# EAGLE library part WE-PPTI_EP7HV (library WE-PPTI)
WE-PPTI Push-Pull Transformers Characteristics Small size Surface mount Low profile Operating temp: -40°C to 125°C Functional or Reinforced Insulation Approved for SN65xx, MAX25x and NXF65xx controllers among others Applications Isolated interface power supply for CAN, RS-485, RS-422, RS-232, SPI, I2C, lower-power LAN Industrial automation Process control Medical equipment PLC analog and digital I/O modules Isolated gate driver power supplies AC motor drives Uninterruptible power supplies (UPS) Solar inverters Polyphase energy meters Protection relays and IEDs <https://www.we-online.com/components/media/o715993v209%20Family-PPTI.jpg> Details see: www.we-online.com/en/components/products/WE-PPTI <www.we-online.com/catalog/WE-PPTI/?utm_source=eagle_model&utm_medium=description_link&utm_campaign=eisos_eagle> Created by Ella Wu 2026-05-06 2026 (C) Würth Elektronik
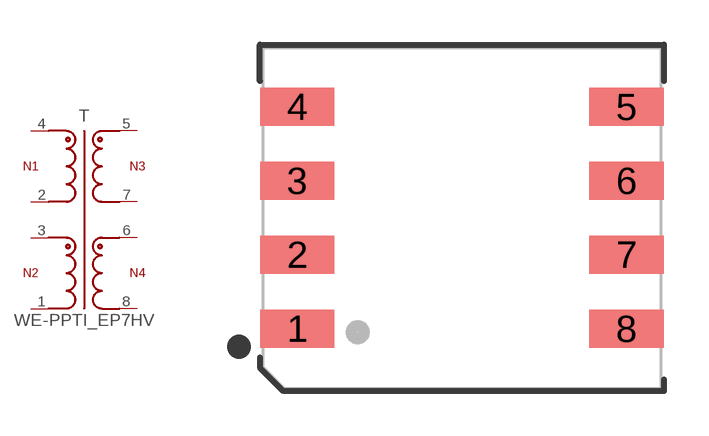
[diagram p5: symbol with the pads of WE-PPTI_EP7HV_L11.46W13.4H11.94; footprint WE-PPTI_EP7HV_L11.46W13.4H11.94]

Designator prefix T

## WE-PPTI_EP7HV_750320775_L11.46W13.4H11.94 (DATASHEET-URL: https://www.we-online.com/redexpert/spec/750320775?ae; FSWITCH: 400 - 1000kHz; HEIGHT: 11.94 mm; IOUT1: 700 mA; L: 300 uH; LENGTH: 13.4 mm; MOUNT: SMT; N: 1.2:1; PART-NUMBER: 750320775; SIZE: EP7HV; TYPE-OF-INSULATION: -; VALUE: 750320775; VIN: 24 V (DC); VOLTAGE-TIME: 60 Vus; VOUT1: 18 V (DC); VT: 4000 V (AC); WIDTH: 11.46 mm), WE-PPTI_EP7HV_750320959_L11.46W13.4H11.94 (DATASHEET-URL: https://www.we-online.com/redexpert/spec/750320959?ae; FSWITCH: 400 - 1000kHz; HEIGHT: 11.94 mm; IOUT1: 1000 mA; L: 150 uH; LENGTH: 13.4 mm; MOUNT: SMT; N: 2.25:1; PART-NUMBER: 750320959; SIZE: EP7HV; TYPE-OF-INSULATION: -; VALUE: 750320959; VIN: 12 V (DC); VOLTAGE-TIME: 54 Vus; VOUT1: 3.3 V (DC); VT: 4000 V (AC); WIDTH: 11.46 mm), WE-PPTI_EP7HV_750320961_L11.46W13.4H11.94 (DATASHEET-URL: https://www.we-online.com/redexpert/spec/750320961?ae; FSWITCH: 400 - 1000kHz; HEIGHT: 11.94 mm; IOUT1: 750 mA; L: 100 uH; LENGTH: 13.44 mm; MOUNT: SMT; N: 1:1.14; PART-NUMBER: 750320961; SIZE: EP7HV; TYPE-OF-INSULATION: Basic; VALUE: 750320961; VIN: 12 V (DC); VOLTAGE-TIME: 42 Vus; VOUT1: 12 V (DC); VT: 4000 V (AC); WIDTH: 11.46 mm), WE-PPTI_EP7HV_750320962_L11.46W13.4H11.94 (DATASHEET-URL: https://www.we-online.com/redexpert/spec/750320962?ae; FSWITCH: 400 - 1000kHz; HEIGHT: 11.94 mm; IOUT1: 700 mA; L: 100 uH; LENGTH: 13.4 mm; MOUNT: SMT; N: 1:1.43; PART-NUMBER: 750320962; SIZE: EP7HV; TYPE-OF-INSULATION: -; VALUE: 750320962; VIN: 12 V (DC); VOLTAGE-TIME: 42 Vus; VOUT1: 15 V (DC); VT: 4000 V (AC); WIDTH: 11.46 mm), WE-PPTI_EP7HV_750320963_L11.46W13.4H11.94 (DATASHEET-URL: https://www.we-online.com/redexpert/spec/750320963?ae; FSWITCH: 400 - 1000kHz; HEIGHT: 11.94 mm; IOUT1: 650 mA; L: 100 uH; LENGTH: 13.4 mm; MOUNT: SMT; N: 1:1.71; PART-NUMBER: 750320963; SIZE: EP7HV; TYPE-OF-INSULATION: -; VALUE: 750320963; VIN: 12 V (DC); VOLTAGE-TIME: 42 Vus; VOUT1: 18 V (DC); VT: 4000 V (AC); WIDTH: 11.64 mm), WE-PPTI_EP7HV_750320964_L11.46W13.4H11.94 (DATASHEET-URL: https://www.we-online.com/redexpert/spec/750320964?ae; FSWITCH: 400 - 1000kHz; HEIGHT: 11.94 mm; IOUT1: 450 mA; L: 100 uH; LENGTH: 13.4 mm; MOUNT: SMT; N: 1:2; PART-NUMBER: 750320964; SIZE: EP7HV; TYPE-OF-INSULATION: -; VALUE: 750320964; VIN: 12 V (DC); VOLTAGE-TIME: 42 Vus; VOUT1: 21 V (DC); VT: 4000 V (AC); WIDTH: 11.46 mm), WE-PPTI_EP7HV_750320965_L11.46W13.4H11.94 (DATASHEET-URL: https://www.we-online.com/redexpert/spec/750320965?ae; FSWITCH: 400 - 1000kHz; HEIGHT: 11.94 mm; IOUT1: 450 mA; L: 100 uH; LENGTH: 13.4 mm; MOUNT: SMT; N: 1:2.29; PART-NUMBER: 750320965; SIZE: EP7HV; TYPE-OF-INSULATION: -; VALUE: 750320965; VIN: 12 V (DC); VOLTAGE-TIME: 42 Vus; VOUT1: 24 V (DC); VT: 4000 V (AC); WIDTH: 11.46 mm), WE-PPTI_EP7HV_750320966_L11.46W13.4H11.94 (DATASHEET-URL: https://www.we-online.com/redexpert/spec/750320966?ae; FSWITCH: 400 - 1000kHz; HEIGHT: 11.94 mm; IOUT1: 450 mA; L: 80 uH; LENGTH: 13.4 mm; MOUNT: SMT; N: 1:2.5; PART-NUMBER: 750320966; SIZE: EP7HV; TYPE-OF-INSULATION: -; VALUE: 750320966; VIN: 12 V (DC); VOLTAGE-TIME: 36 Vus; VOUT1: 27 V (DC); VT: 4000 V (AC); WIDTH: 11.46 mm), WE-PPTI_EP7HV_750320967_L11.46W13.4H11.94 (DATASHEET-URL: https://www.we-online.com/redexpert/spec/750320967?ae; FSWITCH: 400 - 1000kHz; HEIGHT: 11.94 mm; IOUT1: 350 mA; L: 100 uH; LENGTH: 13.4 mm; MOUNT: SMT; N: 1:2.71; PART-NUMBER: 750320967; SIZE: EP7HV; TYPE-OF-INSULATION: -; VALUE: 750320967; VIN: 12 V (DC); VOLTAGE-TIME: 42 Vus; VOUT1: 30 V (DC); VT: 4000 V (AC); WIDTH: 11.46 mm), WE-PPTI_EP7HV_750320968_L11.46W13.4H11.94 (DATASHEET-URL: https://www.we-online.com/redexpert/spec/750320968?ae; FSWITCH: 400 - 1000kHz; HEIGHT: 11.94 mm; IOUT1: 1300 mA; L: 370 uH; LENGTH: 13.4 mm; MOUNT: SMT; N: 4.67:1; PART-NUMBER: 750320968; SIZE: EP7HV; TYPE-OF-INSULATION: Basic; VALUE: 750320968; VIN: 24 V (DC); VOLTAGE-TIME: 86 Vus; VOUT1: 3.3 V (DC); VT: 4000 V (AC); WIDTH: 11.46 mm), WE-PPTI_EP7HV_750320969_L11.46W13.4H11.94 (DATASHEET-URL: https://www.we-online.com/redexpert/spec/750320969?ae; FSWITCH: 400 - 1000kHz; HEIGHT: 11.94 mm; IOUT1: 1200 mA; L: 490 uH; LENGTH: 13.4 mm; MOUNT: SMT; N: 3.75:1; PART-NUMBER: 750320969; SIZE: EP7HV; TYPE-OF-INSULATION: -; VALUE: 750320969; VIN: 24 V (DC); VOLTAGE-TIME: 92 Vus; VOUT1: 5 V (DC); VT: 4000 V (AC); WIDTH: 11.46 mm), WE-PPTI_EP7HV_750320970_L11.46W13.4H11.94 (DATASHEET-URL: https://www.we-online.com/redexpert/spec/750320970?ae; FSWITCH: 400 - 1000kHz; HEIGHT: 11.94 mm; IOUT1: 850 mA; L: 430 uH; LENGTH: 13.4 mm; MOUNT: SMT; N: 1.75:1; PART-NUMBER: 750320970; SIZE: EP7HV; TYPE-OF-INSULATION: Basic/Reinforced; VALUE: 750320970; VIN: 24 V (DC); VOLTAGE-TIME: 86 Vus; VOUT1: 12 V (DC); VT: 4000 V (AC); WIDTH: 11.46 mm), WE-PPTI_EP7HV_750320971_L11.46W13.4H11.94 (DATASHEET-URL: https://www.we-online.com/redexpert/spec/750320971?ae; FSWITCH: 400 - 1000kHz; HEIGHT: 11.94 mm; IOUT1: 800 mA; L: 430 uH; LENGTH: 13.4 mm; MOUNT: SMT; N: 1.4:1; PART-NUMBER: 750320971; SIZE: EP7HV; TYPE-OF-INSULATION: -; VALUE: 750320971; VIN: 24 V (DC); VOLTAGE-TIME: 86 Vus; VOUT1: 15 V (DC); VT: 4000 V (AC); WIDTH: 11.46 mm), WE-PPTI_EP7HV_750320972_L11.46W13.4H11.94 (DATASHEET-URL: https://www.we-online.com/redexpert/spec/750320972?ae; FSWITCH: 400 - 1000kHz; HEIGHT: 11.94 mm; IOUT1: 600 mA; L: 420 uH; LENGTH: 13.4 mm; MOUNT: SMT; N: 1.17:1; PART-NUMBER: 750320972; SIZE: EP7HV; TYPE-OF-INSULATION: -; VALUE: 750320972; VIN: 24 V (DC); VOLTAGE-TIME: 86 Vus; VOUT1: 19 V (DC); VT: 4000 V (AC); WIDTH: 11.46 mm), WE-PPTI_EP7HV_750320973_L11.46W13.4H11.94 (DATASHEET-URL: https://www.we-online.com/redexpert/spec/750320973?ae; FSWITCH: 400 - 1000kHz; HEIGHT: 11.94 mm; IOUT1: 600 mA; L: 315 uH; LENGTH: 13.4 mm; MOUNT: SMT; N: 1:1; PART-NUMBER: 750320973; SIZE: EP7HV; TYPE-OF-INSULATION: -; VALUE: 750320973; VIN: 24 V (DC); VOLTAGE-TIME: 74 Vus; VOUT1: 21 V (DC); VT: 4000 V (AC); WIDTH: 11.46 mm), WE-PPTI_EP7HV_750320974_L11.46W13.4H11.94 (DATASHEET-URL: https://www.we-online.com/redexpert/spec/750320974?ae; FSWITCH: 400 - 1000kHz; HEIGHT: 11.94 mm; IOUT1: 550 mA; L: 430 uH; LENGTH: 13.4 mm; MOUNT: SMT; N: 1:1.07; PART-NUMBER: 750320974; SIZE: EP7HV; TYPE-OF-INSULATION: -; VALUE: 750320974; VIN: 24 V (DC); VOLTAGE-TIME: 86 Vus; VOUT1: 24 V (DC); VT: 4000 V (AC); WIDTH: 11.46 mm), WE-PPTI_EP7HV_750320975_L11.46W13.4H11.94 (DATASHEET-URL: https://www.we-online.com/redexpert/spec/750320975?ae; FSWITCH: 400 - 1000kHz; HEIGHT: 11.94 mm; IOUT1: 500 mA; L: 315 uH; LENGTH: 13.4 mm; MOUNT: SMT; N: 1:1.25; PART-NUMBER: 750320975; SIZE: EP7HV; TYPE-OF-INSULATION: -; VALUE: 750320975; VIN: 24 V (DC); VOLTAGE-TIME: 74 Vus; VOUT1: 27 V (DC); VT: 4000 V (AC); WIDTH: 11.46 mm), WE-PPTI_EP7HV_750320976_L11.46W13.4H11.94 (DATASHEET-URL: https://www.we-online.com/redexpert/spec/750320976?ae; FSWITCH: 400 - 1000kHz; HEIGHT: 11.94 mm; IOUT1: 450 mA; L: 300 uH; LENGTH: 13.4 mm; MOUNT: SMT; N: 1:1.33; PART-NUMBER: 750320976; SIZE: EP7HV; TYPE-OF-INSULATION: Basic; VALUE: 750320976; VIN: 24 V (DC); VOLTAGE-TIME: 74 Vus; VOUT1: 30 V (DC); VT: 4000 V (AC); WIDTH: 11.46 mm)  [WE-PPTI_EP7HV_L11.46W13.4H11.94]
1  1  pas
2  2  pas
3  3  pas
4  4  pas
5  5  pas
6  6  pas
7  7  pas
8  8  pas

## Footprint WE-PPTI_EP7HV_L11.46W13.4H11.94 (pad centres in mm)
WE-PPTI Push-Pull Transformers Size: EP7 HV, SMT, 8pins LXWXH=11.46X13.4X11.94mm
smd 2.5 x 1.29: 1 -5.54,-3.735; 2 -5.54,-1.245; 3 -5.54,1.245; 4 -5.54,3.735; 5 5.54,3.735; 6 5.54,1.245; 7 5.54,-1.245; 8 5.54,-3.735